# Altium footprint library 5.20-DDR2~DDR4 FBGA内存封装.PcbLib: 4 footprints
Each footprint in its own frame and in the unit in brackets; x right, y up, seen from the top. Pads: shape width x height; smd on the part's side, far side on the other; paste and mask are expansions set on the pad; w line width, h text height; cw(c..) or ccw(c..) is an arc to the next point about the centre after c.
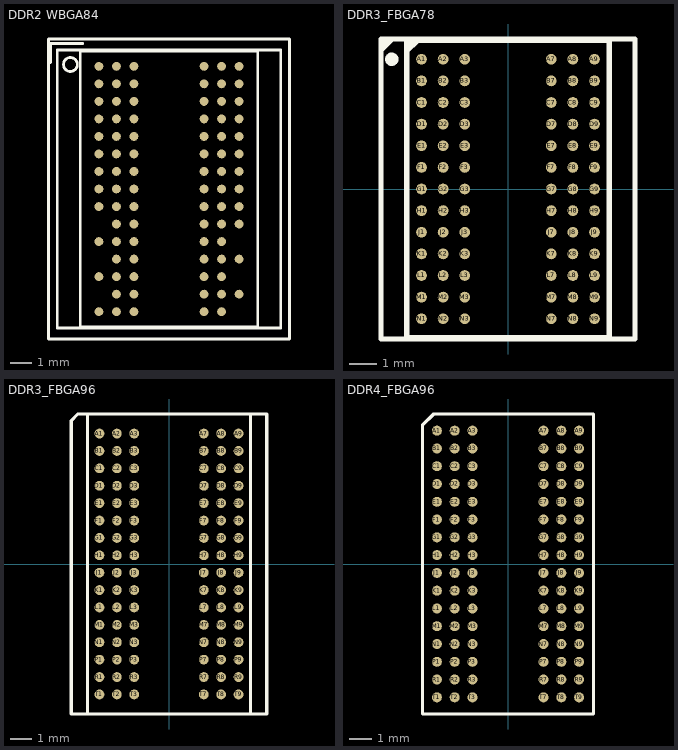
[diagram p0: the footprints below, top view; thin cyan lines are the x and y axes]

## DDR2 WBGA84 [mm] "[ PCBѧϰȺ514746572 ]"
pads (84):
  round 0.4 smd: A1(-57.683,37.401) A2(-56.883,37.401) A3(-56.083,37.401) A7(-52.883,37.401) A8(-52.083,37.401) A9(-51.283,37.401) B1(-57.683,36.601) B2(-56.883,36.601) B3(-56.083,36.601) B7(-52.883,36.601) B8(-52.083,36.601) B9(-51.283,36.601) C1(-57.683,35.801) C2(-56.883,35.801) C3(-56.083,35.801) C7(-52.883,35.801) C8(-52.083,35.801) C9(-51.283,35.801) D1(-57.683,35.001) D2(-56.883,35.001) D3(-56.083,35.001) D7(-52.883,35.001) D8(-52.083,35.001) D9(-51.283,35.001) E1(-57.683,34.201) E2(-56.883,34.201) E3(-56.083,34.201) E7(-52.883,34.201) E8(-52.083,34.201) E9(-51.283,34.201) F1(-57.683,33.401) F2(-56.883,33.401) F3(-56.083,33.401) F7(-52.883,33.401) F8(-52.083,33.401) F9(-51.283,33.401) G1(-57.683,32.601) G2(-56.883,32.601) G3(-56.083,32.601) G7(-52.883,32.601) G8(-52.083,32.601) G9(-51.283,32.601) H1(-57.683,31.801) H2(-56.883,31.801) H3(-56.083,31.801) H7(-52.883,31.801) H8(-52.083,31.801) H9(-51.283,31.801) J1(-57.683,31.001) J2(-56.883,31.001) J3(-56.083,31.001) J7(-52.883,31.001) J8(-52.083,31.001) J9(-51.283,31.001) K2(-56.883,30.201) K3(-56.083,30.201) K7(-52.883,30.201) K8(-52.083,30.201) K9(-51.283,30.201) L1(-57.683,29.401) L2(-56.883,29.401) L3(-56.083,29.401) L7(-52.883,29.401) L8(-52.083,29.401) M2(-56.883,28.601) M3(-56.083,28.601) M7(-52.883,28.601) M8(-52.083,28.601) M9(-51.283,28.601) N1(-57.683,27.801) N2(-56.883,27.801) N3(-56.083,27.801) N7(-52.883,27.801) N8(-52.083,27.801) P2(-56.883,27.001) P3(-56.083,27.001) P7(-52.883,27.001) P8(-52.083,27.001) P9(-51.283,27.001) R1(-57.683,26.201) R2(-56.883,26.201) R3(-56.083,26.201) R7(-52.883,26.201) R8(-52.083,26.201)
Top Overlay:
  circle w0.127: c-58.986,37.487 r0.318
  lines w0.127: -59.891,37.572 -59.891,38.451 -58.42,38.451 ; -59.983,24.951 -59.983,38.651 -48.983,38.651 -48.983,24.951 -59.983,24.951 ; -59.583,25.451 -59.583,38.151 -49.383,38.151 -49.383,25.451 -59.583,25.451 ; -58.533,25.501 -58.533,38.101 -50.433,38.101 -50.433,25.501 -58.533,25.501

## DDR3_FBGA78 [mil] "DDR3 RAM      [ PCBѧϰȺ514746572 ]"
pads (78):
  round 15.7 smd: A1(-126,189) A2(-94.5,189) A3(-63,189) A7(63,189) A8(94.5,189) A9(126,189) B1(-126,157.5) B2(-94.5,157.5) B3(-63,157.5) B7(63,157.5) B8(94.5,157.5) B9(126,157.5) C1(-126,126) C2(-94.5,126) C3(-63,126) C7(63,126) C8(94.5,126) C9(126,126) D1(-126,94.5) D2(-94.5,94.5) D3(-63,94.5) D7(63,94.5) D8(94.5,94.5) D9(126,94.5) E1(-126,63) E2(-94.5,63) E3(-63,63) E7(63,63) E8(94.5,63) E9(126,63) F1(-126,31.5) F2(-94.5,31.5) F3(-63,31.5) F7(63,31.5) F8(94.5,31.5) F9(126,31.5) G1(-126,0) G2(-94.5,0) G3(-63,0) G7(63,0) G8(94.5,0) G9(126,0) H1(-126,-31.5) H2(-94.5,-31.5) H3(-63,-31.5) H7(63,-31.5) H8(94.5,-31.5) H9(126,-31.5) J1(-126,-63) J2(-94.5,-63) J3(-63,-63) J7(63,-63) J8(94.5,-63) J9(126,-63) K1(-126,-94.5) K2(-94.5,-94.5) K3(-63,-94.5) K7(63,-94.5) K8(94.5,-94.5) K9(126,-94.5) L1(-126,-126) L2(-94.5,-126) L3(-63,-126) L7(63,-126) L8(94.5,-126) L9(126,-126) M1(-126,-157.5) M2(-94.5,-157.5) M3(-63,-157.5) M7(63,-157.5) M8(94.5,-157.5) M9(126,-157.5) N1(-126,-189) N2(-94.5,-189) N3(-63,-189) N7(63,-189) N8(94.5,-189) N9(126,-189)
Top Overlay:
  circle w9.8: c-169.3,189 r4.9
  lines w7.9: -185,202.8 -169.3,218.5 -177.2,218.5 -185,210.6 ; -147.6,200.8 -131.9,216.5 -139.8,216.5 -147.6,208.7 ; -185,-218.5 -185,218.5 185,218.5 185,-218.5 -185,-218.5 ; -147.6,-216.5 -147.6,216.5 147.6,216.5 147.6,-216.5 -147.6,-216.5

## DDR3_FBGA96 [mm] "[ PCBѧϰȺ514746572 ]"
pads (96):
  round 0.45 smd: A1(-3.2,6) A2(-2.4,6) A3(-1.6,6) A7(1.6,6) A8(2.4,6) A9(3.2,6) B1(-3.2,5.2) B2(-2.4,5.2) B3(-1.6,5.2) B7(1.6,5.2) B8(2.4,5.2) B9(3.2,5.2) C1(-3.2,4.4) C2(-2.4,4.4) C3(-1.6,4.4) C7(1.6,4.4) C8(2.4,4.4) C9(3.2,4.4) D1(-3.2,3.6) D2(-2.4,3.6) D3(-1.6,3.6) D7(1.6,3.6) D8(2.4,3.6) D9(3.2,3.6) E1(-3.2,2.8) E2(-2.4,2.8) E3(-1.6,2.8) E7(1.6,2.8) E8(2.4,2.8) E9(3.2,2.8) F1(-3.2,2) F2(-2.4,2) F3(-1.6,2) F7(1.6,2) F8(2.4,2) F9(3.2,2) G1(-3.2,1.2) G2(-2.4,1.2) G3(-1.6,1.2) G7(1.6,1.2) G8(2.4,1.2) G9(3.2,1.2) H1(-3.2,0.4) H2(-2.4,0.4) H3(-1.6,0.4) H7(1.6,0.4) H8(2.4,0.4) H9(3.2,0.4) J1(-3.2,-0.4) J2(-2.4,-0.4) J3(-1.6,-0.4) J7(1.6,-0.4) J8(2.4,-0.4) J9(3.2,-0.4) K1(-3.2,-1.2) K2(-2.4,-1.2) K3(-1.6,-1.2) K7(1.6,-1.2) K8(2.4,-1.2) K9(3.2,-1.2) L1(-3.2,-2) L2(-2.4,-2) L3(-1.6,-2) L7(1.6,-2) L8(2.4,-2) L9(3.2,-2) M1(-3.2,-2.8) M2(-2.4,-2.8) M3(-1.6,-2.8) M7(1.6,-2.8) M8(2.4,-2.8) M9(3.2,-2.8) N1(-3.2,-3.6) N2(-2.4,-3.6) N3(-1.6,-3.6) N7(1.6,-3.6) N8(2.4,-3.6) N9(3.2,-3.6) P1(-3.2,-4.4) P2(-2.4,-4.4) P3(-1.6,-4.4) P7(1.6,-4.4) P8(2.4,-4.4) P9(3.2,-4.4) R1(-3.2,-5.2) R2(-2.4,-5.2) R3(-1.6,-5.2) R7(1.6,-5.2) R8(2.4,-5.2) R9(3.2,-5.2) T1(-3.2,-6) T2(-2.4,-6) T3(-1.6,-6) T7(1.6,-6) T8(2.4,-6) T9(3.2,-6)
Top Overlay:
  lines w0.152: -4.5,-6.9 4.5,-6.9 4.5,6.9 -4.2,6.9 -4.5,6.6 -4.5,-6.9 ; -3.75,-6.9 -3.75,6.9 3.75,6.9 3.75,-6.9 -3.75,-6.9

## DDR4_FBGA96 [mm] "[ PCBѧϰȺ514746572 ]"
pads (96):
  round 0.45 smd: A1(-3.2,6) A2(-2.4,6) A3(-1.6,6) A7(1.6,6) A8(2.4,6) A9(3.2,6) B1(-3.2,5.2) B2(-2.4,5.2) B3(-1.6,5.2) B7(1.6,5.2) B8(2.4,5.2) B9(3.2,5.2) C1(-3.2,4.4) C2(-2.4,4.4) C3(-1.6,4.4) C7(1.6,4.4) C8(2.4,4.4) C9(3.2,4.4) D1(-3.2,3.6) D2(-2.4,3.6) D3(-1.6,3.6) D7(1.6,3.6) D8(2.4,3.6) D9(3.2,3.6) E1(-3.2,2.8) E2(-2.4,2.8) E3(-1.6,2.8) E7(1.6,2.8) E8(2.4,2.8) E9(3.2,2.8) F1(-3.2,2) F2(-2.4,2) F3(-1.6,2) F7(1.6,2) F8(2.4,2) F9(3.2,2) G1(-3.2,1.2) G2(-2.4,1.2) G3(-1.6,1.2) G7(1.6,1.2) G8(2.4,1.2) G9(3.2,1.2) H1(-3.2,0.4) H2(-2.4,0.4) H3(-1.6,0.4) H7(1.6,0.4) H8(2.4,0.4) H9(3.2,0.4) J1(-3.2,-0.4) J2(-2.4,-0.4) J3(-1.6,-0.4) J7(1.6,-0.4) J8(2.4,-0.4) J9(3.2,-0.4) K1(-3.2,-1.2) K2(-2.4,-1.2) K3(-1.6,-1.2) K7(1.6,-1.2) K8(2.4,-1.2) K9(3.2,-1.2) L1(-3.2,-2) L2(-2.4,-2) L3(-1.6,-2) L7(1.6,-2) L8(2.4,-2) L9(3.2,-2) M1(-3.2,-2.8) M2(-2.4,-2.8) M3(-1.6,-2.8) M7(1.6,-2.8) M8(2.4,-2.8) M9(3.2,-2.8) N1(-3.2,-3.6) N2(-2.4,-3.6) N3(-1.6,-3.6) N7(1.6,-3.6) N8(2.4,-3.6) N9(3.2,-3.6) P1(-3.2,-4.4) P2(-2.4,-4.4) P3(-1.6,-4.4) P7(1.6,-4.4) P8(2.4,-4.4) P9(3.2,-4.4) R1(-3.2,-5.2) R2(-2.4,-5.2) R3(-1.6,-5.2) R7(1.6,-5.2) R8(2.4,-5.2) R9(3.2,-5.2) T1(-3.2,-6) T2(-2.4,-6) T3(-1.6,-6) T7(1.6,-6) T8(2.4,-6) T9(3.2,-6)
Top Overlay:
  lines w0.152: 3.85,-6.75 -3.85,-6.75 -3.85,6.25 -3.35,6.75 3.85,6.75 3.85,-6.725
3D body: height 0.8, standoff 0.3, extent -3.75,-6.65 3.75,6.65